# EAGLE library part SQA411CEJW-T1_GE3 (library SQA411CEJW-T1_GE3)
Automotive P-Channel 60 V (D-S) 175 C MOSFET Source: Datasheet <https://www.vishay.com/en/product/63171/>
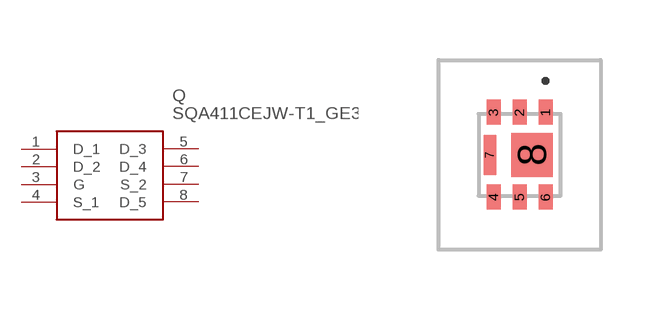
[diagram p0: symbol with the pads of SQA411CEJWT1_GE3; footprint SQA411CEJWT1_GE3]

Designator prefix Q

## SQA411CEJW-T1_GE3 (Description: Automotive P-Channel 60 V (D-S) 175 C MOSFET; Height: 0.85mm; Manufacturer_Name: Vishay; Manufacturer_Part_Number: SQA411CEJW-T1_GE3; Mouser_Part_Number: 78-SQA411CEJW-T1_GE3; Mouser_Price-Stock: https://www.mouser.co.uk/ProductDetail/Vishay-Semiconductors/SQA411CEJW-T1_GE3?qs=MyNHzdoqoQKvSQEfP%252BAPkA%3D%3D)  [SQA411CEJWT1_GE3]
1  D_1
2  D_2
3  G
4  S_1
5  D_3
6  D_4
7  S_2
8  D_5

## Footprint SQA411CEJWT1_GE3 (pad centres in mm)
PowerPAK® SC-70W 6L
smd 0.35 x 0.625: 1 0.65,1.063; 2 0,1.063; 3 -0.65,1.063; 4 -0.65,-1.062; 5 0,-1.062; 6 0.65,-1.062
smd 0.32 x 1: 7 -0.74,0
smd 1.03 x 1.1: 8 0.31,0